# Altium footprint library LBP.PcbLib: 12 footprints
Each footprint in its own frame and in the unit in brackets; x right, y up, seen from the top. Pads: shape width x height; smd on the part's side, far side on the other; paste and mask are expansions set on the pad; w line width, h text height; cw(c..) or ccw(c..) is an arc to the next point about the centre after c.
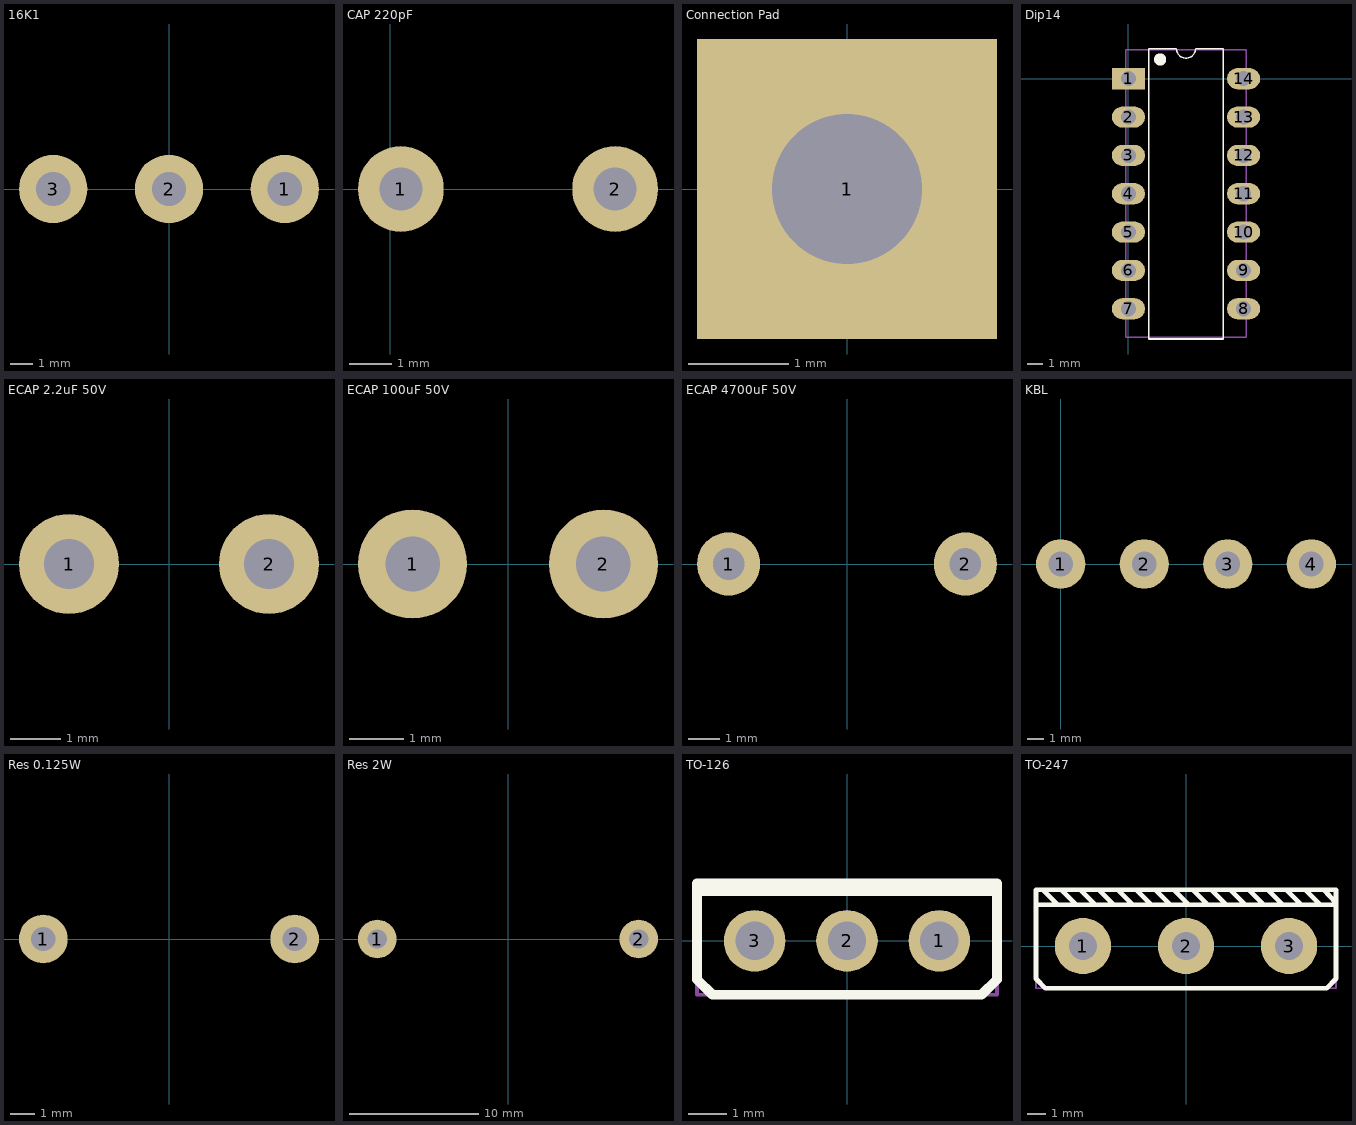
[diagram p0: the footprints below, top view; thin cyan lines are the x and y axes]

## 16K1 [mm]
pads (3):
  round 3 hole 1.5: 1(5.08,0) 2(0,0) 3(-5.08,0)
3D body "POT10K.step": height 21.5, standoff -4, extent -8.522,-18.45 8.475,5.75

## CAP 220pF [mm]
pads (2):
  round 2 hole 1: 1(0.25,0) 2(5.25,0)
3D body "K10-17-0805.stp": height 6.2, standoff -3, extent 0,-1.906 5.5,1.906

## Connection Pad [mm]
pads (1):
  rect 3x3 hole 1.5: 1(0,0)

## Dip14 [mm]
pads (14):
  rect 2.2x1.4 hole 1: 1(0,0)
  oval 2.2x1.4 hole 1: 2(0,-2.54) 3(0,-5.08) 4(0,-7.62) 5(0,-10.16) 6(0,-12.7) 7(0,-15.24) 8(7.62,-15.24) 9(7.62,-12.7) 10(7.62,-10.16) 11(7.62,-7.62) 12(7.62,-5.08) 13(7.62,-2.54) 14(7.62,0)
Top Overlay:
  circle w0.6: c2.097,1.275 r0.103
  lines w0.1: 3.175,1.995 ccw(c3.81,1.995) 4.445,1.995 ; 3.175,2 1.348,2 1.348,-17.245 6.274,-17.245 6.274,2 4.445,2
Mechanical 13:
  lines w0.1: -0.19,-17.145 -0.19,1.905 7.81,1.905 7.81,-17.145 -0.19,-17.145
3D body "CircuitWorks-DIP-14.step": height 4.01, standoff -2.97, extent -0.19,-17.145 7.81,1.905

## ECAP 2.2uF 50V [mm]
pads (2):
  round 2 hole 1: 1(-2,0) 2(2,0)
3D body "cappr-2_5.5h12(1).step": height 14, standoff -1, extent -2.75,-2.748 2.75,2.747

## ECAP 100uF 50V [mm]
pads (2):
  round 2 hole 1: 1(-1.75,0) 2(1.75,0)
3D body "cappr-3.5_8.5h12.step": height 14, standoff -1, extent -4.25,-4.247 4.25,4.249

## ECAP 4700uF 50V [mm]
pads (2):
  round 2 hole 1: 1(-3.75,0) 2(3.75,0)
3D body "cappr-7.5_16.5h37.5.step": height 39.5, standoff -1, extent -8.249,-8.245 8.25,8.249

## KBL [mm]
pads (4):
  round 3 hole 1.5: 1(0,0) 2(5.08,0) 3(10.16,0) 4(15.24,0)
3D body "KBL10.STEP": height 32, standoff -3.5, extent -1.75,-3.25 17.05,3.25

## Res 0.125W [mm]
pads (2):
  round 2 hole 1: 1(-5.175,0) 2(5.175,0)
3D body "res-10.35_6.8x2.8.step": height 3.89, standoff -1.5, extent -5.423,-1.4 5.423,1.4

## Res 2W [mm]
pads (2):
  round 3 hole 1.5: 1(-10.16,0) 2(10.16,0)
3D body "res-20.32_15.2x5.1.step": height 6.25, standoff -1.4, extent -10.656,-2.55 10.656,2.55

## TO-126 [mm]
height 12
pads (3):
  round 1.6 hole 1: 1(2.4,0) 2(0,0) 3(-2.4,0)
Top Overlay:
  lines w0.254: -3.9,1.3 3.9,1.3 ; -3.9,-1 -3.5,-1.4 3.5,-1.4 3.9,-1 3.9,1.5 -3.9,1.5 -3.9,-1
Mechanical 13:
  lines w0.1: -3.9,1.3 3.9,1.3 ; -3.9,1.4 3.9,1.4 ; -3.9,-1.4 3.9,-1.4 3.9,1.5 -3.9,1.5 -3.9,-1.4
Mechanical 15:
  lines w0.1: -0.75,0 0.75,0 ; 0,-0.75 0,0.75 ; -3.9,-1.4 -3.9,1.4 3.9,1.4 3.9,-1.4 -3.9,-1.4
3D body "User Library-2SB649A (TO-126 MOD) v3.step": height 15, standoff -2, extent -4,-1.35 4,1.35

## TO-247 [mm]
height 20
pads (3):
  round 3 hole 1.5: 1(-5.5,0) 2(0,0) 3(5.5,0)
Top Overlay:
  lines w0.25: -7.95,2.2 8,2.2 ; -7.65,3 -6.85,2.2 ; -6.65,3 -5.85,2.2 ; -5.65,3 -4.85,2.2 ; -4.65,3 -3.85,2.2 ; -3.65,3 -2.85,2.2 ; -2.65,3 -1.85,2.2 ; -1.65,3 -0.85,2.2 ; -0.65,3 0.15,2.2 ; 0.35,3 1.15,2.2 ; 1.35,3 2.15,2.2 ; 2.35,3 3.15,2.2 ; 3.35,3 4.15,2.2 ; 4.35,3 5.15,2.2 ; 5.35,3 6.15,2.2 ; 6.35,3 7.15,2.2 ; 7.35,3 8,2.3
  lines w0.254: -8,-1.75 -8,3 8,3 8,-1.75 7.5,-2.25 -7.5,-2.25 -8,-1.75
Mechanical 15:
  lines w0.1: -1,0 1,0 ; 0,-1 0,1 ; -8,-2.25 -8,3 8,3 8,-2.25 -8,-2.25
3D body "User Library-TO-247AC.STEP": height 26.1, standoff -1.5, extent -7.9,-2.3 7.9,3